# Altium footprint library Pulser Driver1.PcbLib: 50 footprints (part 4 of 4)
Each footprint in its own frame and in the unit in brackets; x right, y up, seen from the top. Pads: shape width x height; smd on the part's side, far side on the other; paste and mask are expansions set on the pad; w line width, h text height; cw(c..) or ccw(c..) is an arc to the next point about the centre after c.
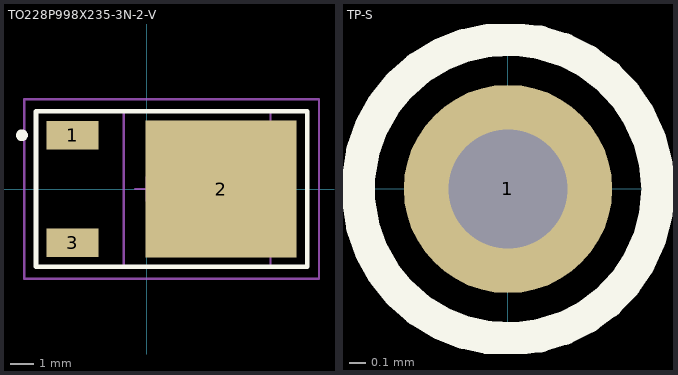
[diagram p3: the footprints below, top view; thin cyan lines are the x and y axes]

## TO228P998X235-3N-2-V [mm] "TO,2.28mm pitch;2 pin,9.98mm L X 6.12mm W X 2.35mm H body"
height 2.35
pads (3):
  rect 2.2x1.2 smd paste+0 mask+0: 1(-3.15,2.28) 3(-3.15,-2.28)
  rect 6.4x5.8 smd paste+0 mask+0: 2(3.15,0)
Top Overlay:
  circle w0.25: c-5.3,2.28 r0.125
  lines w0.2: -4.7,-3.3 -4.7,3.3 6.8,3.3 6.8,-3.3 -4.7,-3.3
Mechanical 3:
  text ".DESIGNATOR" at 0,0 h1.2
Mechanical 13:
  lines w0.1: -0.98,-3.275 -0.98,3.275 5.24,3.275 5.24,-3.275 -0.98,-3.275
Mechanical 15:
  lines w0.1: -0.5,0 0.5,0 ; 0,-0.5 0,0.5 ; -5.2,-3.8 7.3,-3.8 7.3,3.8 -5.2,3.8 -5.2,-3.8
3D body "TO252-3-11.stp": height 2.36, standoff 0, extent -3.94,-3.25 6.04,3.25

## TP-S [mm]
pads (1):
  round 1.27 hole 0.725: 1(0,0)
Top Overlay:
  circle w0.203: c0,0 r0.914